# EAGLE library part LOLIN-D32 (library Lolin-D32)
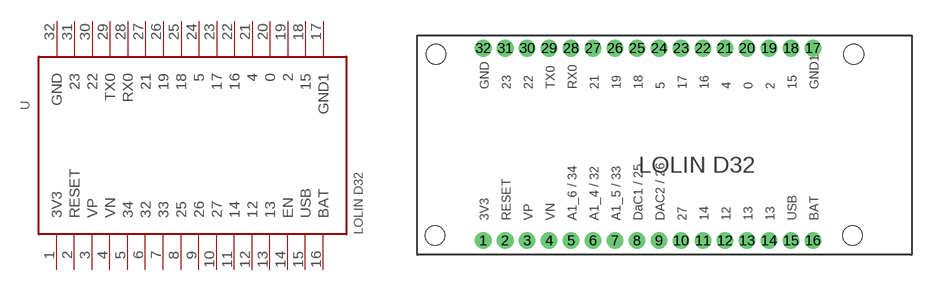
[diagram p0: symbol with the pads of LOLIN-D32; footprint LOLIN-D32]

Designator prefix -

## LOLIN-D32  [LOLIN-D32]
1  3V3
2  RESET
3  VP
4  VN
5  34
6  32
7  33
8  25
9  26
10  27
11  14
12  12
13  13
14  EN
15  USB
16  BAT
17  GND1
18  15
19  2
20  0
21  4
22  16
23  17
24  5
25  18
26  19
27  21
28  RX0
29  TX0
30  22
31  23
32  GND

## Footprint LOLIN-D32 (pad centres in mm)
drill 1 pad 1.93: 1 -25.41,-11; 2 -22.87,-11; 3 -20.33,-11; 4 -17.79,-11; 5 -15.25,-11; 6 -12.71,-11; 7 -10.17,-11; 8 -7.63,-11; 9 -5.09,-11; 10 -2.55,-11; 11 -0.01,-11; 12 2.53,-11; 13 5.07,-11; 14 7.61,-11; 15 10.15,-11; 16 12.69,-10.995; 17 12.69,11.23; 18 10.15,11.23; 19 7.61,11.23; 20 5.07,11.23; 21 2.53,11.23; 22 -0.01,11.23; 23 -2.55,11.23; 24 -5.09,11.23; 25 -7.63,11.23; 26 -10.17,11.23; 27 -12.71,11.23; 28 -15.25,11.23; 29 -17.79,11.23; 30 -20.33,11.23; 31 -22.87,11.23; 32 -25.41,11.23